# EAGLE library part MRJ (library RJ45LVDS_SPI)
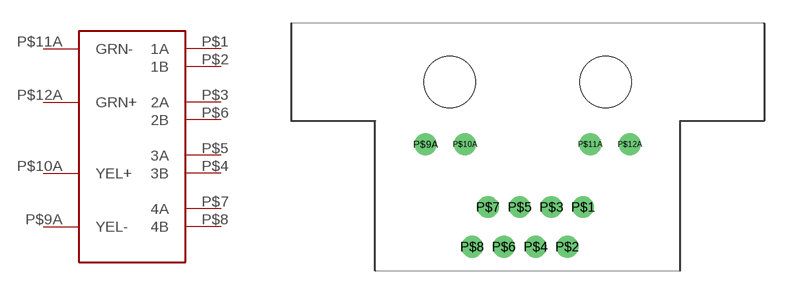
[diagram p1: symbol with the pads of MRJ-MEGAMIX; footprint MRJ-MEGAMIX]

Designator prefix J

## MRJ  [MRJ-MEGAMIX]
P$1  1A
P$2  1B
P$3  2A
P$4  3B
P$5  3A
P$6  2B
P$7  4A
P$8  4B
P$9A  YEL-
P$10A  YEL+
P$11A  GRN-
P$12A  GRN+

## Footprint MRJ-MEGAMIX (pad centres in mm)
drill 0.889: P$1 3.556,1.27; P$2 2.54,-1.27; P$3 1.524,1.27; P$4 0.508,-1.27; P$5 -0.508,1.27; P$6 -1.524,-1.27; P$7 -2.54,1.27; P$8 -3.556,-1.27; P$9A -6.553,5.283; P$10A -4.013,5.283; P$11A 4.013,5.283; P$12A 6.553,5.283
hole 3.3 at -5.004,9.271
hole 3.3 at 5.004,9.271